# Altium footprint library PCB - CONNECTOR - SAMTEC SFM-115-YY-ZZZ-D-A.PCBLIB: 1 footprints
Each footprint in its own frame and in the unit in brackets; x right, y up, seen from the top. Pads: shape width x height; smd on the part's side, far side on the other; paste and mask are expansions set on the pad; w line width, h text height; cw(c..) or ccw(c..) is an arc to the next point about the centre after c.
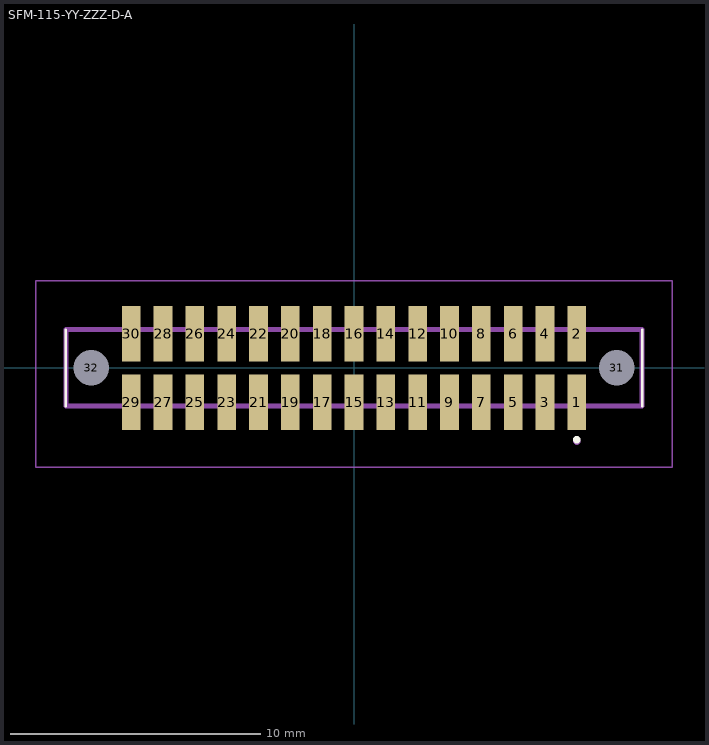
[diagram p0: the footprint, top view; thin cyan lines are the x and y axes]

## SFM-115-YY-ZZZ-D-A [mm]
pads (32):
  rect 0.74x2.22 smd: 1(8.89,-1.365) 2(8.89,1.365) 3(7.62,-1.365) 4(7.62,1.365) 5(6.35,-1.365) 6(6.35,1.365) 7(5.08,-1.365) 8(5.08,1.365) 9(3.81,-1.365) 10(3.81,1.365) 11(2.54,-1.365) 12(2.54,1.365) 13(1.27,-1.365) 14(1.27,1.365) 15(0,-1.365) 16(0,1.365) 17(-1.27,-1.365) 18(-1.27,1.365) 19(-2.54,-1.365) 20(-2.54,1.365) 21(-3.81,-1.365) 22(-3.81,1.365) 23(-5.08,-1.365) 24(-5.08,1.365) 25(-6.35,-1.365) 26(-6.35,1.365) 27(-7.62,-1.365) 28(-7.62,1.365) 29(-8.89,-1.365) 30(-8.89,1.365)
  round 0.71 hole 1.42 unplated: 31(10.48,0) 32(-10.48,0)
Top Overlay:
  circle w0.2: c8.89,-2.865 r0.05
  lines w0.1: -11.495,-1.525 -11.495,1.525 ; 11.495,-1.525 11.495,1.525
Top Assembly:
  circle w0.2: c8.89,-2.921 r0.05
  lines w0.2: -11.495,-1.525 11.495,-1.525 11.495,1.525 -11.495,1.525 -11.495,-1.525
Top Courtyard:
  lines w0.05: -12.695,-3.965 12.695,-3.965 12.695,3.475 -12.695,3.475 -12.695,-3.965
Top Designator:
  text ".Designator" at -12.573,5.334 h1
Top Value (Mech13):
  text ".Comment" at -12.573,4.191 h1
3D body "SFM-115-02-L-D-A.stp": height 4.57, standoff -1.26, extent -11.125,-2.102 11.1,2.102